# Altium integrated library vc-02_lib_Altium.IntLib: 1 symbol
Pins are listed as number, name and electrical type; pins without a type are passive.

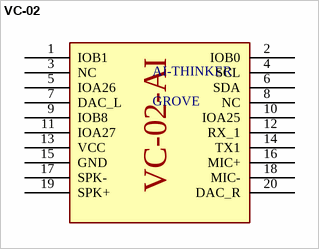
[diagram p0: symbol VC-02]

## VC-02
designator AI-THINKER, comment GROVE
footprint VC-02
pins: 1 IOB1, 2 IOB0, 3 NC, 4 SCL, 5 IOA26, 6 SDA, 7 DAC_L, 8 NC, 9 IOB8, 10 IOA25, 11 IOA27, 12 RX_1, 13 VCC, 14 TX1, 15 GND, 16 MIC+, 17 SPK-, 18 MIC-, 19 SPK+, 20 DAC_R
text: VC-02-AI